# Altium footprint library O_JonF_DaveL.PcbLib: 331 footprints (part 4 of 21)
Each footprint in its own frame and in the unit in brackets; x right, y up, seen from the top. Pads: shape width x height; smd on the part's side, far side on the other; paste and mask are expansions set on the pad; w line width, h text height; cw(c..) or ccw(c..) is an arc to the next point about the centre after c.
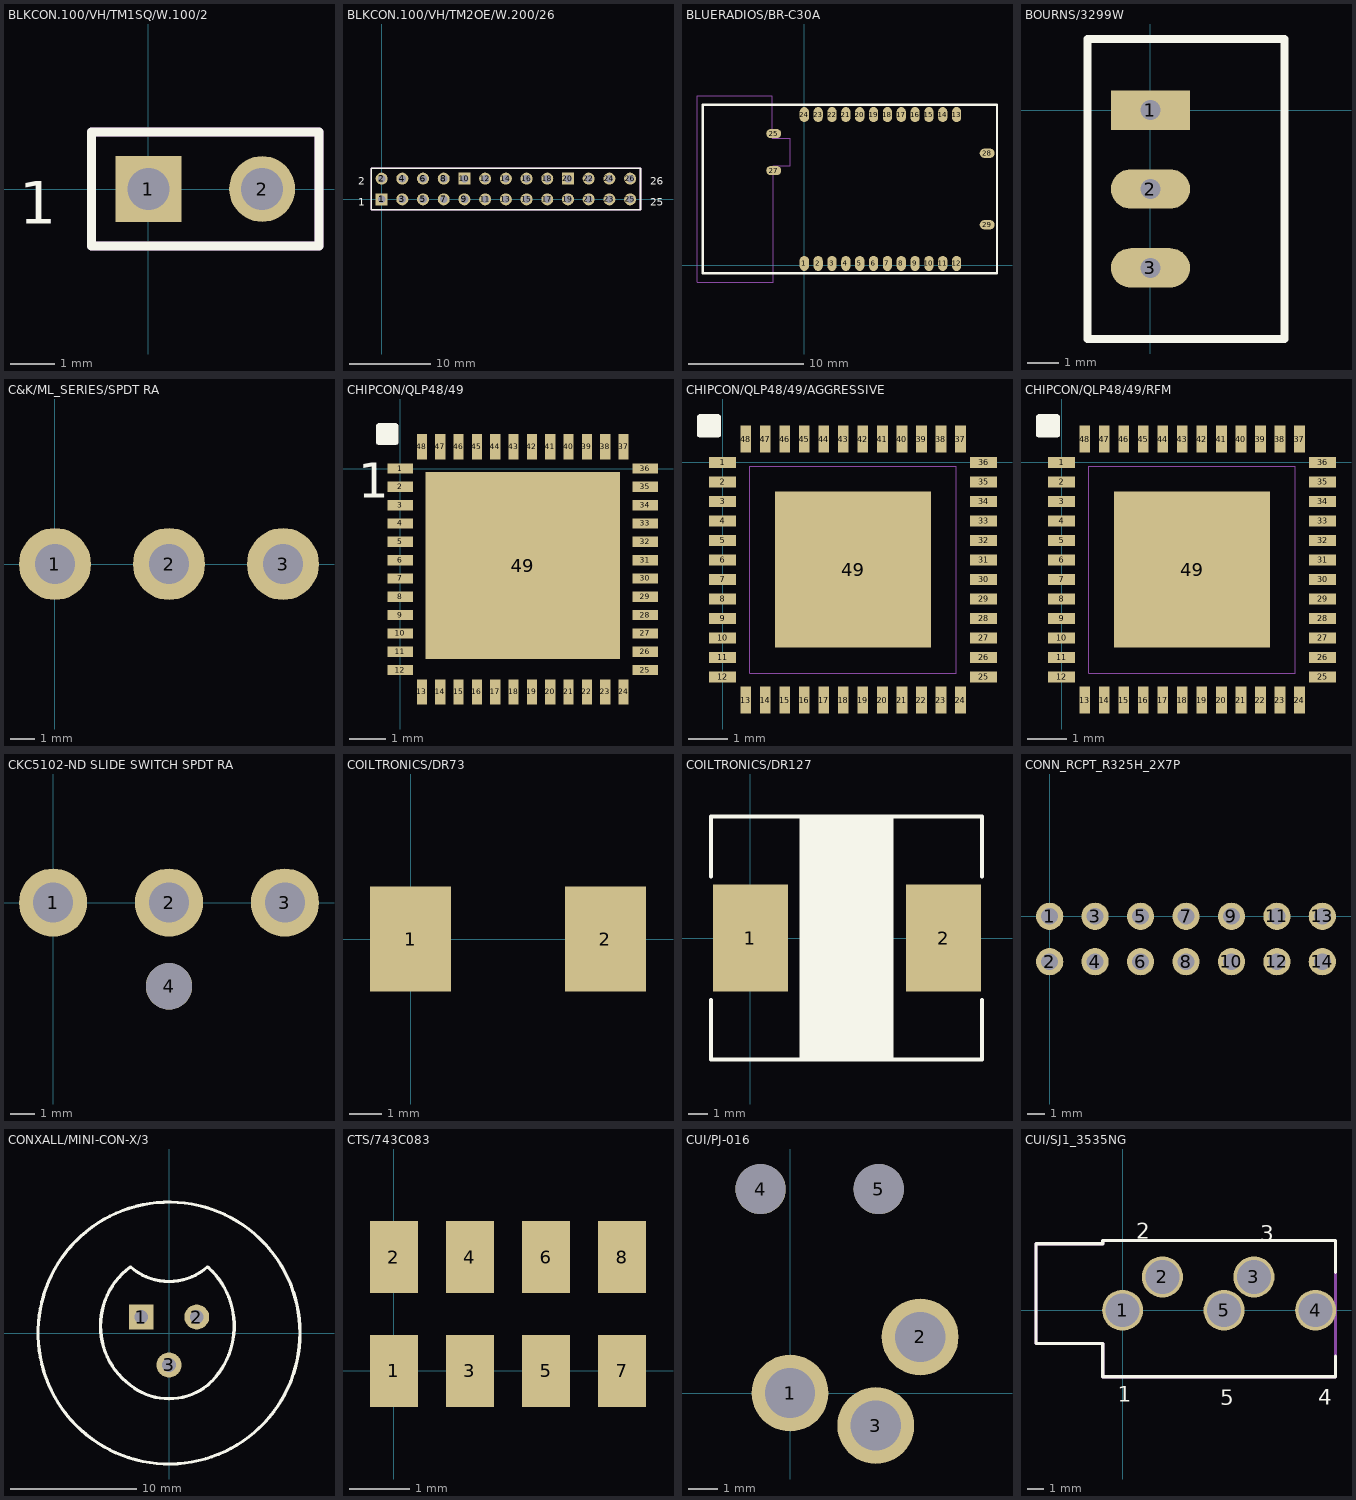
[diagram p3: the footprints below, top view; thin cyan lines are the x and y axes]

## BLKCON.100/VH/TM1SQ/W.100/2 [mil]
pads (2):
  rect 58x58 hole 37: 1(0,0)
  round 58 hole 37: 2(100,0)
Top Overlay:
  lines w8: -50,-50 -50,50 150,50 150,-50 -50,-50
  text ".Designator" at -44.45,-180.62 h37.5
  text "1" at -113.88,-30.63 h37.5
Mechanical 1:
  lines w8: -50,-50 -50,50 150,50 150,-50 -50,-50
  text ".Designator" at -44.45,-180.62 h37.5
  text ".Comment" at -33.33,-130.63 h37.5
  text ".Pattern" at -49.98,-218.38 h22.5
  text "1" at -113.88,-30.63 h37.5

## BLKCON.100/VH/TM2OE/W.200/26 [mil]
pads (26):
  rect 58x58 hole 37: 1(0,0) 10(400,100) 20(900,100)
  round 58 hole 37: 2(0,100) 3(100,0) 4(100,100) 5(200,0) 6(200,100) 7(300,0) 8(300,100) 9(400,0) 11(500,0) 12(500,100) 13(600,0) 14(600,100) 15(700,0) 16(700,100) 17(800,0) 18(800,100) 19(900,0) 21(1000,0) 22(1000,100) 23(1100,0) 24(1100,100) 25(1200,0) 26(1200,100)
Top Overlay:
  lines w8: -50,-50 1250,-50 1250,150 -50,150 -50,-50
  text "25" at 1297.22,-30.63 h37.5
  text "26" at 1297.22,69.38 h37.5
  text "2" at -113.88,69.38 h37.5
  text "1" at -113.88,-30.63 h37.5
  text ".Designator" at -19.45,-180.63 h37.5
Mechanical 1:
  lines w8: -50,-50 1250,-50 1250,150 -50,150 -50,-50
  text "25" at 1297.22,-30.63 h37.5
  text "26" at 1297.22,69.38 h37.5
  text "2" at -113.88,69.38 h37.5
  text "1" at -113.88,-30.63 h37.5
  text ".Pattern" at 66.68,31.63 h22.5
  text ".Comment" at -33.33,-130.62 h37.5
  text ".Designator" at -19.45,-180.63 h37.5

## BLUERADIOS/BR-C30A [mm]
pads (28):
  oval 0.8x1.3 smd: 1(0,0.15) 2(1.2,0.15) 3(2.4,0.15) 4(3.6,0.15) 5(4.8,0.15) 6(6,0.15) 7(7.2,0.15) 8(8.4,0.15) 9(9.6,0.15) 10(10.8,0.15) 11(12,0.15) 12(13.2,0.15) 13(13.2,13.05) 14(12,13.05) 15(10.8,13.05) 16(9.6,13.05) 17(8.4,13.05) 18(7.2,13.05) 19(6,13.05) 20(4.8,13.05) 21(3.6,13.05) 22(2.4,13.05) 23(1.2,13.05) 24(0,13.05)
  oval 1.3x0.8 smd: 25(-2.65,11.4) 27(-2.65,8.2) 28(15.85,9.7) 29(15.85,3.5)
Top Overlay:
  lines w0.203: -8.8,-0.7 -8.8,13.9 16.7,13.9 16.7,-0.7 -8.8,-0.7
  text ".Designator" at 11.6,-2.3 h0.95
Mechanical 1:
  text ".Pattern" at -2.1,4.2 h0.95
  text ".Comment" at -0.1,7.1 h0.95
  text ".Designator" at -0.2,8.7 h0.95
Mechanical 3:
  lines w0.001: -9.3,-1.5 -2.7,-1.5 -2.7,8.6 -1.2,8.6 -1.2,11 -2.8,11 -2.8,14.7 -9.3,14.7 -9.3,-1.5
  text "METAL KEEPOUT" at -6.895,-0.577 h0.95
  text "ON ALL LAYERS" at -4.595,-0.677 h0.95
  text "RF GND PLANE OVER" at -1.8,2.7 h0.77
  text "RF GND PLANE OVER" at -1.8,2.7 h0.77
  text "REST OF PCB" at -1.8,1.4 h0.77

## BOURNS/3299W [mil]
height 454.72
pads (3):
  rect 100x50 hole 25: 1(0,0)
  oval 100x50 hole 25: 2(0,-100) 3(0,-200)
Top Overlay:
  lines w10: -80,-290 -80,90 170,90 170,-290 -80,-290

## C&K/ML_SERIES/SPDT RA [mm]
pads (3):
  round 3 hole 1.651: 1(0,0) 2(4.75,0) 3(9.5,0)
Top Overlay:
  text ".Designator" at -5.19,17.112 h1.43
Mechanical 1:
  text ".Comment" at -5.19,14.255 h1.43
  text ".Designator" at -5.19,17.112 h1.43
  text ".Pattern" at -5.19,8.54 h1.43

## CHIPCON/QLP48/49 [mm]
pads (49):
  rect 0.69x0.28 smd: 1(0,0) 2(0,-0.5) 3(0,-1) 4(0,-1.5) 5(0,-2) 6(0,-2.5) 7(0,-3) 8(0,-3.5) 9(0,-4) 10(0,-4.5) 11(0,-5) 12(0,-5.5) 25(6.69,-5.5) 26(6.69,-5) 27(6.69,-4.5) 28(6.69,-4) 29(6.69,-3.5) 30(6.69,-3) 31(6.69,-2.5) 32(6.69,-2) 33(6.69,-1.5) 34(6.69,-1) 35(6.69,-0.5) 36(6.69,0)
  rect 0.28x0.69 smd: 13(0.595,-6.095) 14(1.095,-6.095) 15(1.595,-6.095) 16(2.095,-6.095) 17(2.595,-6.095) 18(3.095,-6.095) 19(3.595,-6.095) 20(4.095,-6.095) 21(4.595,-6.095) 22(5.095,-6.095) 23(5.595,-6.095) 24(6.095,-6.095) 37(6.095,0.595) 38(5.595,0.595) 39(5.095,0.595) 40(4.595,0.595) 41(4.095,0.595) 42(3.595,0.595) 43(3.095,0.595) 44(2.595,0.595) 45(2.095,0.595) 46(1.595,0.595) 47(1.095,0.595) 48(0.595,0.595)
  rect 5.3x5.1 smd: 49(3.345,-2.65)
Top Overlay:
  region: -0.062,1.213 -0.046,1.175 -0.046,0.7 -0.062,0.662 -0.1,0.646 -0.6,0.646 -0.638,0.662 -0.654,0.7 -0.654,1.175 -0.638,1.213 -0.6,1.229 -0.1,1.229
  text "1" at -1.15,-0.8 h0.95
  text ".Designator" at -0.175,1.225 h1.5
Top Paste:
  drawing of 25 lines, arcs and shapes, not listed
Mechanical 1:
  text "1" at -1.15,-0.8 h0.95
  text ".Designator" at -0.25,1.25 h1.5
  text ".Comment" at -0.45,3.3 h1.5
  text ".Pattern" at -0.5,-11.05 h1.5

## CHIPCON/QLP48/49/AGGRESSIVE [mm]
pads (49):
  rect 0.69x0.28 smd: 1(0,0) 2(0,-0.5) 3(0,-1) 4(0,-1.5) 5(0,-2) 6(0,-2.5) 7(0,-3) 8(0,-3.5) 9(0,-4) 10(0,-4.5) 11(0,-5) 12(0,-5.5) 25(6.69,-5.5) 26(6.69,-5) 27(6.69,-4.5) 28(6.69,-4) 29(6.69,-3.5) 30(6.69,-3) 31(6.69,-2.5) 32(6.69,-2) 33(6.69,-1.5) 34(6.69,-1) 35(6.69,-0.5) 36(6.69,0)
  rect 0.28x0.69 smd: 13(0.595,-6.095) 14(1.095,-6.095) 15(1.595,-6.095) 16(2.095,-6.095) 17(2.595,-6.095) 18(3.095,-6.095) 19(3.595,-6.095) 20(4.095,-6.095) 21(4.595,-6.095) 22(5.095,-6.095) 23(5.595,-6.095) 24(6.095,-6.095) 37(6.095,0.595) 38(5.595,0.595) 39(5.095,0.595) 40(4.595,0.595) 41(4.095,0.595) 42(3.595,0.595) 43(3.095,0.595) 44(2.595,0.595) 45(2.095,0.595) 46(1.595,0.595) 47(1.095,0.595) 48(0.595,0.595)
  rect 4x4 smd: 49(3.345,-2.75)
Top Overlay:
  region: -0.062,1.213 -0.046,1.175 -0.046,0.7 -0.062,0.662 -0.1,0.646 -0.6,0.646 -0.638,0.662 -0.654,0.7 -0.654,1.175 -0.638,1.213 -0.6,1.229 -0.1,1.229
  text ".Designator" at -0.175,1.225 h1.5
Top Paste:
  drawing of 25 lines, arcs and shapes, not listed
Mechanical 1:
  lines w0.001: 0.695,-5.4 5.995,-5.4 5.995,-0.1 0.695,-0.1 0.695,-5.4
  text ".Designator" at 0,9 h1.5
  text ".Comment" at 0,6 h1.5
  text ".Pattern" at 0,0 h1.5
Mechanical 3:
  lines w0.001: 0.695,-5.4 5.995,-5.4 5.995,-0.1 0.695,-0.1 0.695,-5.4

## CHIPCON/QLP48/49/RFM [mm]
pads (49):
  rect 0.69x0.28 smd: 1(0,0) 2(0,-0.5) 3(0,-1) 4(0,-1.5) 5(0,-2) 6(0,-2.5) 7(0,-3) 8(0,-3.5) 9(0,-4) 10(0,-4.5) 11(0,-5) 12(0,-5.5) 25(6.69,-5.5) 26(6.69,-5) 27(6.69,-4.5) 28(6.69,-4) 29(6.69,-3.5) 30(6.69,-3) 31(6.69,-2.5) 32(6.69,-2) 33(6.69,-1.5) 34(6.69,-1) 35(6.69,-0.5) 36(6.69,0)
  rect 0.28x0.69 smd: 13(0.595,-6.095) 14(1.095,-6.095) 15(1.595,-6.095) 16(2.095,-6.095) 17(2.595,-6.095) 18(3.095,-6.095) 19(3.595,-6.095) 20(4.095,-6.095) 21(4.595,-6.095) 22(5.095,-6.095) 23(5.595,-6.095) 24(6.095,-6.095) 37(6.095,0.595) 38(5.595,0.595) 39(5.095,0.595) 40(4.595,0.595) 41(4.095,0.595) 42(3.595,0.595) 43(3.095,0.595) 44(2.595,0.595) 45(2.095,0.595) 46(1.595,0.595) 47(1.095,0.595) 48(0.595,0.595)
  rect 4x4 smd: 49(3.345,-2.75)
Top Overlay:
  region: -0.062,1.213 -0.046,1.175 -0.046,0.7 -0.062,0.662 -0.1,0.646 -0.6,0.646 -0.638,0.662 -0.654,0.7 -0.654,1.175 -0.638,1.213 -0.6,1.229 -0.1,1.229
Top Paste:
  drawing of 24 lines, arcs and shapes, not listed
Mechanical 1:
  lines w0.001: 0.695,-5.4 0.695,-0.1 5.995,-0.1 5.995,-5.4 0.695,-5.4
Mechanical 3:
  lines w0.001: 0.695,-5.4 0.695,-0.1 5.995,-0.1 5.995,-5.4 0.695,-5.4

## CKC5102-ND SLIDE SWITCH SPDT RA [mil]
pads (4):
  round 110 hole 65: 1(0,0) 2(187,0) 3(374,0)
  round 75 hole 75: 4(187,-135)
Mechanical 1:
  text "Place Off Edge Of PCB" at -50,225 h18.75
  text "Switch Head On This Side" at -75,175 h18.75

## COILTRONICS/DR73 [mm]
pads (2):
  rect 2.5x3.25 smd: 1(0,0) 2(6,0)
Top Overlay:
  text ".Designator" at -1.149,-5.577 h0.95
Mechanical 1:
  text ".Designator" at -1.149,-5.577 h0.95
  text ".Comment" at -1.149,-7.051 h0.95
  text ".Pattern" at -1.149,-10.064 h0.95

## COILTRONICS/DR127 [mm]
height 6
pads (2):
  rect 3.85x5.5 smd: 1(0,0) 2(9.95,0)
Top Overlay:
  region: 2.54,6.25 7.366,6.25 7.366,-6.345 2.54,-6.25
  lines w0.203: -2.032,-6.25 11.938,-6.25 ; -2.032,-6.223 -2.032,-3.175 ; -2.032,3.175 -2.032,6.223 ; -2.032,6.25 11.938,6.25 ; 11.938,-6.223 11.938,-3.175 ; 11.938,3.175 11.938,6.223

## CONN_RCPT_R325H_2X7P [mil]
pads (14):
  round 60 hole 37: 1(0,0) 2(0,-100) 3(100,0) 4(100,-100) 5(200,0) 6(200,-100) 7(300,0) 8(300,-100) 9(400,0) 10(400,-100) 11(500,0) 12(500,-100) 13(600,0) 14(600,-100)
Mechanical 3:
  text "JW" at -32,-30 h37.5

## CONXALL/MINI-CON-X/3 [mil]
pads (3):
  rect 78x78 / inner round 78 / far side rect 78x78 hole 43: 1(-87,50)
  round 78 hole 43: 2(87,50) 3(0,-100)
Top Overlay:
  circle w10: c0,0 r410
  lines w10: -121,-163 ccw(c0,-14) 121,-163 ccw(c-43.18,22) 121,207 cw(c0,345.37) -121,207 ccw(c15.6,22) -121,-163
  text ".Designator" at -36,422.5 h30
Bottom Overlay:
  text "3" at 70,-124 h30
  text "2" at 156,26 h30
  text "1" at -22,26 h30
Mechanical 1:
  text ".Designator" at 0,337.5 h56.25
  text ".Comment" at 0,225 h56.25
  text ".Pattern" at 0,0 h56.25

## CTS/743C083 [mm]
pads (8):
  rect 0.8x1.2 smd: 1(0,0) 2(0,1.9) 3(1.27,0) 4(1.27,1.9) 5(2.54,0) 6(2.54,1.9) 7(3.81,0) 8(3.81,1.9)
Top Overlay:
  text ".Designator" at -1.284,-2.991 h1.5
Mechanical 1:
  text ".Designator" at -1.284,-2.991 h1.5
  text ".Comment" at -0.561,4.514 h1.5
  text ".Pattern" at -0.478,2.538 h1.5

## CUI/PJ-016 [mm]
pads (5):
  round 2.6 hole 1.7: 1(0,0) 2(4.4,1.9) 3(2.9,-1.1)
  round 1.7 hole 1.7: 4(-1,6.9) 5(3,6.9)
Top Overlay:
  text ".Designator" at 0,9 h1.5
Mechanical 1:
  text ".Comment" at 0,6 h1.5
  text ".Designator" at 0,9 h1.5
  text ".Pattern" at 0,0 h1.5

## CUI/SJ1_3535NG [mil]
pads (5):
  round 96.83 hole 80: 1(0,0) 2(94.48,78.73) 3(311,78.73) 4(456.7,0) 5(240.15,0)
Top Overlay:
  lines w8: 504,-109.2 504,-157.6 -47.2,-157.6 -47.2,-78.8 -204.8,-78.8 -204.8,157.6 -47.2,157.6 -47.2,165.2 504,165.2 504,89.6
  text "1" at -10.8,-216.93 h37.5
  text ".Designator" at -232.47,183.58 h37.5
  text "4" at 463.07,-223.67 h37.5
  text "3" at 326,163.33 h37.5
  text "2" at 32.47,169.27 h37.5
  text "5" at 231.13,-224.47 h37.5
Mechanical 1:
  lines w8: -204.8,-78.8 -47.2,-78.8 -47.2,-157.6 504,-157.6 504,165.2 -47.2,165.2 -47.2,157.6 -204.8,157.6 -204.8,-78.8
  text "5" at 227.2,-151.73 h37.5
  text "1" at -15.93,-121.73 h37.5
  text ".Designator" at 135.87,-25.48 h37.5
  text "2" at 3.47,101.27 h37.5
  text "3" at 376.53,101 h37.5
  text ".Comment" at -244.77,-240.87 h37.5
  text "4" at 454.8,-154.93 h37.5